# Altium footprint library micro-siemens.PCBLIB: 57 footprints (part 2 of 5)
Each footprint in its own frame and in the unit in brackets; x right, y up, seen from the top. Pads: shape width x height; smd on the part's side, far side on the other; paste and mask are expansions set on the pad; w line width, h text height; cw(c..) or ccw(c..) is an arc to the next point about the centre after c.
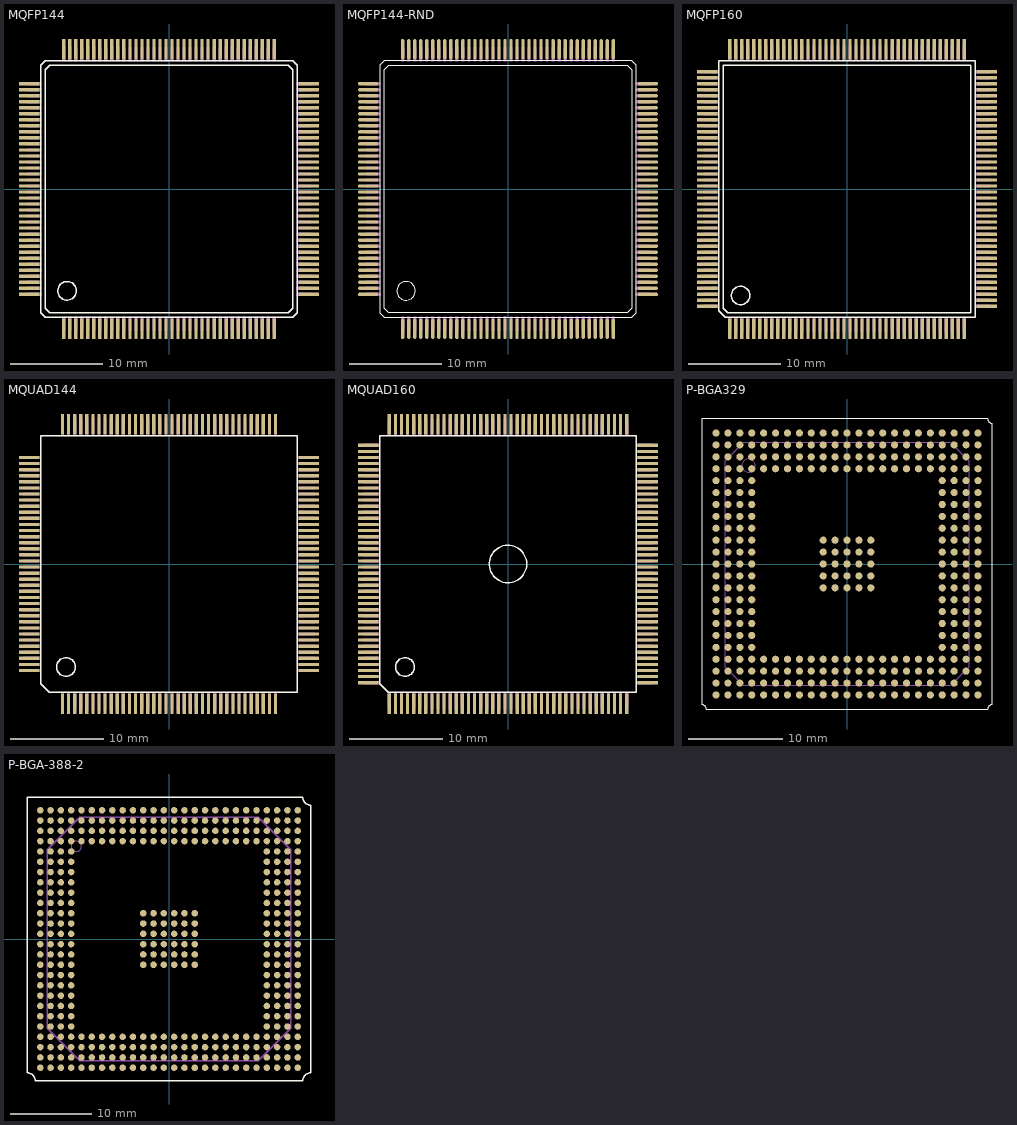
[diagram p1: the footprints below, top view; thin cyan lines are the x and y axes]

## MQFP144 [mm]
pads (144):
  rect 0.35x2.2 smd: 1(-11.375,-15.1) 2(-10.725,-15.1) 3(-10.075,-15.1) 4(-9.425,-15.1) 5(-8.775,-15.1) 6(-8.125,-15.1) 7(-7.475,-15.1) 8(-6.825,-15.1) 9(-6.175,-15.1) 10(-5.525,-15.1) 11(-4.875,-15.1) 12(-4.225,-15.1) 13(-3.575,-15.1) 14(-2.925,-15.1) 15(-2.275,-15.1) 16(-1.625,-15.1) 17(-0.975,-15.1) 18(-0.325,-15.1) 19(0.325,-15.1) 20(0.975,-15.1) 21(1.625,-15.1) 22(2.275,-15.1) 23(2.925,-15.1) 24(3.575,-15.1) 25(4.225,-15.1) 26(4.875,-15.1) 27(5.525,-15.1) 28(6.175,-15.1) 29(6.825,-15.1) 30(7.475,-15.1) 31(8.125,-15.1) 32(8.775,-15.1) 33(9.425,-15.1) 34(10.075,-15.1) 35(10.725,-15.1) 36(11.375,-15.1) 73(11.375,15.1) 74(10.725,15.1) 75(10.075,15.1) 76(9.425,15.1) 77(8.775,15.1) 78(8.125,15.1) 79(7.475,15.1) 80(6.825,15.1) 81(6.175,15.1) 82(5.525,15.1) 83(4.875,15.1) 84(4.225,15.1) 85(3.575,15.1) 86(2.925,15.1) 87(2.275,15.1) 88(1.625,15.1) 89(0.975,15.1) 90(0.325,15.1) 91(-0.325,15.1) 92(-0.975,15.1) 93(-1.625,15.1) 94(-2.275,15.1) 95(-2.925,15.1) 96(-3.575,15.1) 97(-4.225,15.1) 98(-4.875,15.1) 99(-5.525,15.1) 100(-6.175,15.1) 101(-6.825,15.1) 102(-7.475,15.1) 103(-8.125,15.1) 104(-8.775,15.1) 105(-9.425,15.1) 106(-10.075,15.1) 107(-10.725,15.1) 108(-11.375,15.1)
  rect 2.2x0.35 smd: 37(15.1,-11.375) 38(15.1,-10.725) 39(15.1,-10.075) 40(15.1,-9.425) 41(15.1,-8.775) 42(15.1,-8.125) 43(15.1,-7.475) 44(15.1,-6.825) 45(15.1,-6.175) 46(15.1,-5.525) 47(15.1,-4.875) 48(15.1,-4.225) 49(15.1,-3.575) 50(15.1,-2.925) 51(15.1,-2.275) 52(15.1,-1.625) 53(15.1,-0.975) 54(15.1,-0.325) 55(15.1,0.325) 56(15.1,0.975) 57(15.1,1.625) 58(15.1,2.275) 59(15.1,2.925) 60(15.1,3.575) 61(15.1,4.225) 62(15.1,4.875) 63(15.1,5.525) 64(15.1,6.175) 65(15.1,6.825) 66(15.1,7.475) 67(15.1,8.125) 68(15.1,8.775) 69(15.1,9.425) 70(15.1,10.075) 71(15.1,10.725) 72(15.1,11.375) 109(-15.1,11.375) 110(-15.1,10.725) 111(-15.1,10.075) 112(-15.1,9.425) 113(-15.1,8.775) 114(-15.1,8.125) 115(-15.1,7.475) 116(-15.1,6.825) 117(-15.1,6.175) 118(-15.1,5.525) 119(-15.1,4.875) 120(-15.1,4.225) 121(-15.1,3.575) 122(-15.1,2.925) 123(-15.1,2.275) 124(-15.1,1.625) 125(-15.1,0.975) 126(-15.1,0.325) 127(-15.1,-0.325) 128(-15.1,-0.975) 129(-15.1,-1.625) 130(-15.1,-2.275) 131(-15.1,-2.925) 132(-15.1,-3.575) 133(-15.1,-4.225) 134(-15.1,-4.875) 135(-15.1,-5.525) 136(-15.1,-6.175) 137(-15.1,-6.825) 138(-15.1,-7.475) 139(-15.1,-8.125) 140(-15.1,-8.775) 141(-15.1,-9.425) 142(-15.1,-10.075) 143(-15.1,-10.725) 144(-15.1,-11.375)
Top Overlay:
  circle w0.152: c-11,-11 r1
  lines w0.152: -13.873,-13.373 -13.373,-13.873 13.373,-13.873 13.873,-13.373 13.873,13.373 13.373,13.873 -13.373,13.873 -13.873,13.373 -13.873,-13.373 ; -13.373,-12.873 -12.873,-13.373 12.873,-13.373 13.373,-12.873 13.373,12.873 12.873,13.373 -12.873,13.373 -13.373,12.873 -13.373,-12.873
Mechanical 16:
  rectangle: -11.55,13.746 -11.2,15.346
  rectangle: -10.9,13.746 -10.55,15.346
  rectangle: -10.25,13.746 -9.9,15.346
  rectangle: -9.6,13.746 -9.25,15.346
  rectangle: -8.95,13.746 -8.6,15.346
  rectangle: -8.3,13.746 -7.95,15.346
  rectangle: -7.65,13.746 -7.3,15.346
  rectangle: -7,13.746 -6.65,15.346
  rectangle: -6.35,13.746 -6,15.346
  rectangle: -5.7,13.746 -5.35,15.346
  rectangle: -5.05,13.746 -4.7,15.346
  rectangle: -4.4,13.746 -4.05,15.346
  rectangle: -3.75,13.746 -3.4,15.346
  rectangle: -3.1,13.746 -2.75,15.346
  rectangle: -2.45,13.746 -2.1,15.346
  rectangle: -1.8,13.746 -1.45,15.346
  rectangle: -1.15,13.746 -0.8,15.346
  rectangle: -0.5,13.746 -0.15,15.346
  rectangle: 0.15,13.746 0.5,15.346
  rectangle: 0.8,13.746 1.15,15.346
  rectangle: 1.45,13.746 1.8,15.346
  rectangle: 2.1,13.746 2.45,15.346
  rectangle: 2.75,13.746 3.1,15.346
  rectangle: 3.4,13.746 3.75,15.346
  rectangle: 4.05,13.746 4.4,15.346
  rectangle: 4.7,13.746 5.05,15.346
  rectangle: 5.35,13.746 5.7,15.346
  rectangle: 6,13.746 6.35,15.346
  rectangle: 6.65,13.746 7,15.346
  rectangle: 7.3,13.746 7.65,15.346
  rectangle: 7.95,13.746 8.3,15.346
  rectangle: 8.6,13.746 8.95,15.346
  rectangle: 9.25,13.746 9.6,15.346
  rectangle: 9.9,13.746 10.25,15.346
  rectangle: 10.55,13.746 10.9,15.346
  rectangle: 11.2,13.746 11.55,15.346
  rectangle: 13.746,11.2 15.346,11.55
  rectangle: 13.746,10.55 15.346,10.9
  rectangle: 13.746,9.9 15.346,10.25
  rectangle: 13.746,9.25 15.346,9.6
  rectangle: 13.746,8.6 15.346,8.95
  rectangle: 13.746,7.95 15.346,8.3
  rectangle: 13.746,7.3 15.346,7.65
  rectangle: 13.721,6 15.346,6.35
  rectangle: 13.746,5.35 15.346,5.7
  rectangle: 13.746,4.7 15.346,5.05
  rectangle: 13.746,4.05 15.346,4.4
  rectangle: 13.746,6.65 15.346,7
  rectangle: 13.746,3.4 15.346,3.75
  rectangle: 13.746,2.75 15.346,3.1
  rectangle: 13.746,2.1 15.346,2.45
  rectangle: 13.746,1.45 15.346,1.8
  rectangle: 13.746,0.8 15.346,1.15
  rectangle: 13.746,0.15 15.346,0.5
  rectangle: 13.721,-0.5 15.346,-0.15
  rectangle: 13.746,-1.15 15.346,-0.8
  rectangle: 13.746,-1.8 15.346,-1.45
  rectangle: 13.771,-2.45 15.346,-2.1
  rectangle: 13.746,-3.1 15.346,-2.75
  rectangle: 13.746,-3.75 15.346,-3.4
  rectangle: 13.746,-4.4 15.346,-4.05
  rectangle: 13.746,-5.05 15.346,-4.7
  rectangle: 13.746,-5.7 15.346,-5.35
  rectangle: 13.746,-6.35 15.346,-6
  rectangle: 13.746,-7 15.346,-6.65
  rectangle: 13.746,-7.65 15.346,-7.3
  rectangle: 13.721,-7.95 13.746,-7.925
  rectangle: 13.746,-8.3 15.346,-7.95
  rectangle: 13.746,-8.95 15.346,-8.6
  rectangle: 13.746,-9.6 15.346,-9.25
  rectangle: 13.746,-10.25 15.346,-9.9
  rectangle: 13.721,-10.9 15.346,-10.55
  rectangle: 13.746,-11.55 15.346,-11.2
  rectangle: -15.346,11.2 -13.746,11.55
  rectangle: -15.346,10.55 -13.746,10.9
  rectangle: -15.346,9.9 -13.746,10.25
  rectangle: -15.346,9.25 -13.746,9.6
  rectangle: -15.346,8.6 -13.746,8.95
  rectangle: -15.346,7.95 -13.746,8.3
  rectangle: -15.346,7.3 -13.746,7.65
  rectangle: -15.346,6.65 -13.746,7
  rectangle: -15.346,6 -13.746,6.35
  rectangle: -15.346,5.35 -13.746,5.7
  rectangle: -15.346,4.7 -13.746,5.05
  rectangle: -15.346,4.05 -13.771,4.4
  rectangle: -15.346,3.4 -13.746,3.75
  rectangle: -15.346,2.75 -13.746,3.1
  rectangle: -15.346,2.1 -13.746,2.45
  rectangle: -15.346,1.45 -13.746,1.8
  rectangle: -15.346,0.8 -13.746,1.15
  rectangle: -15.346,0.15 -13.746,0.5
  rectangle: -15.346,-0.5 -13.746,-0.15
  rectangle: -15.346,-1.15 -13.746,-0.8
  rectangle: -15.346,-1.8 -13.746,-1.45
  rectangle: -15.346,-2.45 -13.746,-2.1
  rectangle: -15.346,-3.1 -13.721,-2.75
  rectangle: -15.346,-3.75 -13.746,-3.4
  rectangle: -15.346,-4.4 -13.746,-4.05
  rectangle: -15.346,-5.05 -13.746,-4.7
  rectangle: -15.346,-5.7 -13.746,-5.35
  rectangle: -15.346,-6.35 -13.746,-6
  rectangle: -15.346,-7 -13.746,-6.65
  rectangle: -15.346,-7.65 -13.746,-7.3
  rectangle: -15.346,-8.3 -13.746,-7.95
  rectangle: -15.346,-8.95 -13.721,-8.6
  rectangle: -15.346,-9.6 -13.746,-9.25
  rectangle: -15.346,-10.25 -13.746,-9.9
  rectangle: -15.346,-10.9 -13.746,-10.55
  rectangle: -15.346,-11.55 -13.721,-11.2
  rectangle: -11.55,-15.346 -11.2,-13.746
  rectangle: -10.9,-15.346 -10.55,-13.746
  rectangle: -10.25,-15.346 -9.9,-13.746
  rectangle: -9.6,-15.346 -9.25,-13.746
  rectangle: -8.95,-15.346 -8.6,-13.746
  rectangle: -8.3,-15.346 -7.95,-13.746
  rectangle: -7.65,-15.346 -7.3,-13.746
  rectangle: -7,-15.346 -6.65,-13.746
  rectangle: -6.35,-15.346 -6,-13.746
  rectangle: -5.7,-15.346 -5.35,-13.746
  rectangle: -5.05,-15.346 -4.7,-13.746
  rectangle: -4.4,-15.346 -4.05,-13.746
  rectangle: -3.75,-15.346 -3.4,-13.746
  rectangle: -3.1,-15.346 -2.75,-13.746
  rectangle: -2.45,-15.346 -2.1,-13.746
  rectangle: -1.8,-15.346 -1.45,-13.746
  rectangle: -1.15,-15.346 -0.8,-13.746
  rectangle: -0.5,-15.346 -0.15,-13.721
  rectangle: 0.15,-15.346 0.5,-13.746
  rectangle: 0.8,-13.796 0.825,-13.771
  rectangle: 0.8,-15.346 1.15,-13.746
  rectangle: 1.45,-15.346 1.8,-13.746
  rectangle: 2.1,-15.346 2.45,-13.746
  rectangle: 2.75,-15.346 3.1,-13.746
  rectangle: 3.4,-15.346 3.75,-13.746
  rectangle: 4.05,-15.346 4.4,-13.746
  rectangle: 4.7,-15.346 5.05,-13.746
  rectangle: 5.375,-15.346 5.7,-13.746
  rectangle: 6,-15.346 6.35,-13.746
  rectangle: 6.65,-15.346 7,-13.746
  rectangle: 7.3,-15.346 7.65,-13.746
  rectangle: 7.95,-15.346 8.3,-13.746
  rectangle: 8.6,-15.346 8.95,-13.746
  rectangle: 9.25,-15.346 9.6,-13.746
  rectangle: 9.9,-15.346 10.25,-13.746
  rectangle: 10.55,-15.346 10.9,-13.746
  rectangle: 11.2,-15.346 11.55,-13.746

## MQFP144-RND [mm]
pads (144):
  rrect100% 0.35x2.2 smd: 1(-11.375,-15.1) 2(-10.725,-15.1) 3(-10.075,-15.1) 4(-9.425,-15.1) 5(-8.775,-15.1) 6(-8.125,-15.1) 7(-7.475,-15.1) 8(-6.825,-15.1) 9(-6.175,-15.1) 10(-5.525,-15.1) 11(-4.875,-15.1) 12(-4.225,-15.1) 13(-3.575,-15.1) 14(-2.925,-15.1) 15(-2.275,-15.1) 16(-1.625,-15.1) 17(-0.975,-15.1) 18(-0.325,-15.1) 19(0.325,-15.1) 20(0.975,-15.1) 21(1.625,-15.1) 22(2.275,-15.1) 23(2.925,-15.1) 24(3.575,-15.1) 25(4.225,-15.1) 26(4.875,-15.1) 27(5.525,-15.1) 28(6.175,-15.1) 29(6.825,-15.1) 30(7.475,-15.1) 31(8.125,-15.1) 32(8.775,-15.1) 33(9.425,-15.1) 34(10.075,-15.1) 35(10.725,-15.1) 36(11.375,-15.1) 73(11.375,15.1) 74(10.725,15.1) 75(10.075,15.1) 76(9.425,15.1) 77(8.775,15.1) 78(8.125,15.1) 79(7.475,15.1) 80(6.825,15.1) 81(6.175,15.1) 82(5.525,15.1) 83(4.875,15.1) 84(4.225,15.1) 85(3.575,15.1) 86(2.925,15.1) 87(2.275,15.1) 88(1.625,15.1) 89(0.975,15.1) 90(0.325,15.1) 91(-0.325,15.1) 92(-0.975,15.1) 93(-1.625,15.1) 94(-2.275,15.1) 95(-2.925,15.1) 96(-3.575,15.1) 97(-4.225,15.1) 98(-4.875,15.1) 99(-5.525,15.1) 100(-6.175,15.1) 101(-6.825,15.1) 102(-7.475,15.1) 103(-8.125,15.1) 104(-8.775,15.1) 105(-9.425,15.1) 106(-10.075,15.1) 107(-10.725,15.1) 108(-11.375,15.1)
  rrect100% 2.2x0.35 smd: 37(15.1,-11.375) 38(15.1,-10.725) 39(15.1,-10.075) 40(15.1,-9.425) 41(15.1,-8.775) 42(15.1,-8.125) 43(15.1,-7.475) 44(15.1,-6.825) 45(15.1,-6.175) 46(15.1,-5.525) 47(15.1,-4.875) 48(15.1,-4.225) 49(15.1,-3.575) 50(15.1,-2.925) 51(15.1,-2.275) 52(15.1,-1.625) 53(15.1,-0.975) 54(15.1,-0.325) 55(15.1,0.325) 56(15.1,0.975) 57(15.1,1.625) 58(15.1,2.275) 59(15.1,2.925) 60(15.1,3.575) 61(15.1,4.225) 62(15.1,4.875) 63(15.1,5.525) 64(15.1,6.175) 65(15.1,6.825) 66(15.1,7.475) 67(15.1,8.125) 68(15.1,8.775) 69(15.1,9.425) 70(15.1,10.075) 71(15.1,10.725) 72(15.1,11.375) 109(-15.1,11.375) 110(-15.1,10.725) 111(-15.1,10.075) 112(-15.1,9.425) 113(-15.1,8.775) 114(-15.1,8.125) 115(-15.1,7.475) 116(-15.1,6.825) 117(-15.1,6.175) 118(-15.1,5.525) 119(-15.1,4.875) 120(-15.1,4.225) 121(-15.1,3.575) 122(-15.1,2.925) 123(-15.1,2.275) 124(-15.1,1.625) 125(-15.1,0.975) 126(-15.1,0.325) 127(-15.1,-0.325) 128(-15.1,-0.975) 129(-15.1,-1.625) 130(-15.1,-2.275) 131(-15.1,-2.925) 132(-15.1,-3.575) 133(-15.1,-4.225) 134(-15.1,-4.875) 135(-15.1,-5.525) 136(-15.1,-6.175) 137(-15.1,-6.825) 138(-15.1,-7.475) 139(-15.1,-8.125) 140(-15.1,-8.775) 141(-15.1,-9.425) 142(-15.1,-10.075) 143(-15.1,-10.725) 144(-15.1,-11.375)
Top Overlay:
  circle w0: c-11,-11 r1
  lines w0.127: -13.873,-13.373 -13.373,-13.873 13.373,-13.873 13.873,-13.373 13.873,13.373 13.373,13.873 -13.373,13.873 -13.873,13.373 -13.873,-13.373 ; -13.373,-12.873 -12.873,-13.373 12.873,-13.373 13.373,-12.873 13.373,12.873 12.873,13.373 -12.873,13.373 -13.373,12.873 -13.373,-12.873
Mechanical 16:
  rectangle: -11.55,13.746 -11.2,15.346
  rectangle: -10.9,13.746 -10.55,15.346
  rectangle: -10.25,13.746 -9.9,15.346
  rectangle: -9.6,13.746 -9.25,15.346
  rectangle: -8.95,13.746 -8.6,15.346
  rectangle: -8.3,13.746 -7.95,15.346
  rectangle: -7.65,13.746 -7.3,15.346
  rectangle: -7,13.746 -6.65,15.346
  rectangle: -6.35,13.746 -6,15.346
  rectangle: -5.7,13.746 -5.35,15.346
  rectangle: -5.05,13.746 -4.7,15.346
  rectangle: -4.4,13.746 -4.05,15.346
  rectangle: -3.75,13.746 -3.4,15.346
  rectangle: -3.1,13.746 -2.75,15.346
  rectangle: -2.45,13.746 -2.1,15.346
  rectangle: -1.8,13.746 -1.45,15.346
  rectangle: -1.15,13.746 -0.8,15.346
  rectangle: -0.5,13.746 -0.15,15.346
  rectangle: 0.15,13.746 0.5,15.346
  rectangle: 0.8,13.746 1.15,15.346
  rectangle: 1.45,13.746 1.8,15.346
  rectangle: 2.1,13.746 2.45,15.346
  rectangle: 2.75,13.746 3.1,15.346
  rectangle: 3.4,13.746 3.75,15.346
  rectangle: 4.05,13.746 4.4,15.346
  rectangle: 4.7,13.746 5.05,15.346
  rectangle: 5.35,13.746 5.7,15.346
  rectangle: 6,13.746 6.35,15.346
  rectangle: 6.65,13.746 7,15.346
  rectangle: 7.3,13.746 7.65,15.346
  rectangle: 7.95,13.746 8.3,15.346
  rectangle: 8.6,13.746 8.95,15.346
  rectangle: 9.25,13.746 9.6,15.346
  rectangle: 9.9,13.746 10.25,15.346
  rectangle: 10.55,13.746 10.9,15.346
  rectangle: 11.2,13.746 11.55,15.346
  rectangle: 13.746,11.2 15.346,11.55
  rectangle: 13.746,10.55 15.346,10.9
  rectangle: 13.746,9.9 15.346,10.25
  rectangle: 13.746,9.25 15.346,9.6
  rectangle: 13.746,8.6 15.346,8.95
  rectangle: 13.746,7.95 15.346,8.3
  rectangle: 13.746,7.3 15.346,7.65
  rectangle: 13.721,6 15.346,6.35
  rectangle: 13.746,5.35 15.346,5.7
  rectangle: 13.746,4.7 15.346,5.05
  rectangle: 13.746,4.05 15.346,4.4
  rectangle: 13.746,6.65 15.346,7
  rectangle: 13.746,3.4 15.346,3.75
  rectangle: 13.746,2.75 15.346,3.1
  rectangle: 13.746,2.1 15.346,2.45
  rectangle: 13.746,1.45 15.346,1.8
  rectangle: 13.746,0.8 15.346,1.15
  rectangle: 13.746,0.15 15.346,0.5
  rectangle: 13.721,-0.5 15.346,-0.15
  rectangle: 13.746,-1.15 15.346,-0.8
  rectangle: 13.746,-1.8 15.346,-1.45
  rectangle: 13.771,-2.45 15.346,-2.1
  rectangle: 13.746,-3.1 15.346,-2.75
  rectangle: 13.746,-3.75 15.346,-3.4
  rectangle: 13.746,-4.4 15.346,-4.05
  rectangle: 13.746,-5.05 15.346,-4.7
  rectangle: 13.746,-5.7 15.346,-5.35
  rectangle: 13.746,-6.35 15.346,-6
  rectangle: 13.746,-7 15.346,-6.65
  rectangle: 13.746,-7.65 15.346,-7.3
  rectangle: 13.721,-7.95 13.746,-7.925
  rectangle: 13.746,-8.3 15.346,-7.95
  rectangle: 13.746,-8.95 15.346,-8.6
  rectangle: 13.746,-9.6 15.346,-9.25
  rectangle: 13.746,-10.25 15.346,-9.9
  rectangle: 13.721,-10.9 15.346,-10.55
  rectangle: 13.746,-11.55 15.346,-11.2
  rectangle: -15.346,11.2 -13.746,11.55
  rectangle: -15.346,10.55 -13.746,10.9
  rectangle: -15.346,9.9 -13.746,10.25
  rectangle: -15.346,9.25 -13.746,9.6
  rectangle: -15.346,8.6 -13.746,8.95
  rectangle: -15.346,7.95 -13.746,8.3
  rectangle: -15.346,7.3 -13.746,7.65
  rectangle: -15.346,6.65 -13.746,7
  rectangle: -15.346,6 -13.746,6.35
  rectangle: -15.346,5.35 -13.746,5.7
  rectangle: -15.346,4.7 -13.746,5.05
  rectangle: -15.346,4.05 -13.771,4.4
  rectangle: -15.346,3.4 -13.746,3.75
  rectangle: -15.346,2.75 -13.746,3.1
  rectangle: -15.346,2.1 -13.746,2.45
  rectangle: -15.346,1.45 -13.746,1.8
  rectangle: -15.346,0.8 -13.746,1.15
  rectangle: -15.346,0.15 -13.746,0.5
  rectangle: -15.346,-0.5 -13.746,-0.15
  rectangle: -15.346,-1.15 -13.746,-0.8
  rectangle: -15.346,-1.8 -13.746,-1.45
  rectangle: -15.346,-2.45 -13.746,-2.1
  rectangle: -15.346,-3.1 -13.721,-2.75
  rectangle: -15.346,-3.75 -13.746,-3.4
  rectangle: -15.346,-4.4 -13.746,-4.05
  rectangle: -15.346,-5.05 -13.746,-4.7
  rectangle: -15.346,-5.7 -13.746,-5.35
  rectangle: -15.346,-6.35 -13.746,-6
  rectangle: -15.346,-7 -13.746,-6.65
  rectangle: -15.346,-7.65 -13.746,-7.3
  rectangle: -15.346,-8.3 -13.746,-7.95
  rectangle: -15.346,-8.95 -13.721,-8.6
  rectangle: -15.346,-9.6 -13.746,-9.25
  rectangle: -15.346,-10.25 -13.746,-9.9
  rectangle: -15.346,-10.9 -13.746,-10.55
  rectangle: -15.346,-11.55 -13.721,-11.2
  rectangle: -11.55,-15.346 -11.2,-13.746
  rectangle: -10.9,-15.346 -10.55,-13.746
  rectangle: -10.25,-15.346 -9.9,-13.746
  rectangle: -9.6,-15.346 -9.25,-13.746
  rectangle: -8.95,-15.346 -8.6,-13.746
  rectangle: -8.3,-15.346 -7.95,-13.746
  rectangle: -7.65,-15.346 -7.3,-13.746
  rectangle: -7,-15.346 -6.65,-13.746
  rectangle: -6.35,-15.346 -6,-13.746
  rectangle: -5.7,-15.346 -5.35,-13.746
  rectangle: -5.05,-15.346 -4.7,-13.746
  rectangle: -4.4,-15.346 -4.05,-13.746
  rectangle: -3.75,-15.346 -3.4,-13.746
  rectangle: -3.1,-15.346 -2.75,-13.746
  rectangle: -2.45,-15.346 -2.1,-13.746
  rectangle: -1.8,-15.346 -1.45,-13.746
  rectangle: -1.15,-15.346 -0.8,-13.746
  rectangle: -0.5,-15.346 -0.15,-13.721
  rectangle: 0.15,-15.346 0.5,-13.746
  rectangle: 0.8,-13.796 0.825,-13.771
  rectangle: 0.8,-15.346 1.15,-13.746
  rectangle: 1.45,-15.346 1.8,-13.746
  rectangle: 2.1,-15.346 2.45,-13.746
  rectangle: 2.75,-15.346 3.1,-13.746
  rectangle: 3.4,-15.346 3.75,-13.746
  rectangle: 4.05,-15.346 4.4,-13.746
  rectangle: 4.7,-15.346 5.05,-13.746
  rectangle: 5.375,-15.346 5.7,-13.746
  rectangle: 6,-15.346 6.35,-13.746
  rectangle: 6.65,-15.346 7,-13.746
  rectangle: 7.3,-15.346 7.65,-13.746
  rectangle: 7.95,-15.346 8.3,-13.746
  rectangle: 8.6,-15.346 8.95,-13.746
  rectangle: 9.25,-15.346 9.6,-13.746
  rectangle: 9.9,-15.346 10.25,-13.746
  rectangle: 10.55,-15.346 10.9,-13.746
  rectangle: 11.2,-15.346 11.55,-13.746

## MQFP160 [mm]
pads (160):
  rect 0.35x2.2 smd: 1(-12.675,-15.1) 2(-12.025,-15.1) 3(-11.375,-15.1) 4(-10.725,-15.1) 5(-10.075,-15.1) 6(-9.425,-15.1) 7(-8.775,-15.1) 8(-8.125,-15.1) 9(-7.475,-15.1) 10(-6.825,-15.1) 11(-6.175,-15.1) 12(-5.525,-15.1) 13(-4.875,-15.1) 14(-4.225,-15.1) 15(-3.575,-15.1) 16(-2.925,-15.1) 17(-2.275,-15.1) 18(-1.625,-15.1) 19(-0.975,-15.1) 20(-0.325,-15.1) 21(0.325,-15.1) 22(0.975,-15.1) 23(1.625,-15.1) 24(2.275,-15.1) 25(2.925,-15.1) 26(3.575,-15.1) 27(4.225,-15.1) 28(4.875,-15.1) 29(5.525,-15.1) 30(6.175,-15.1) 31(6.825,-15.1) 32(7.475,-15.1) 33(8.125,-15.1) 34(8.775,-15.1) 35(9.425,-15.1) 36(10.075,-15.1) 37(10.725,-15.1) 38(11.375,-15.1) 39(12.025,-15.1) 40(12.675,-15.1) 81(12.675,15.1) 82(12.025,15.1) 83(11.375,15.1) 84(10.725,15.1) 85(10.075,15.1) 86(9.425,15.1) 87(8.775,15.1) 88(8.125,15.1) 89(7.475,15.1) 90(6.825,15.1) 91(6.175,15.1) 92(5.525,15.1) 93(4.875,15.1) 94(4.225,15.1) 95(3.575,15.1) 96(2.925,15.1) 97(2.275,15.1) 98(1.625,15.1) 99(0.975,15.1) 100(0.325,15.1) 101(-0.325,15.1) 102(-0.975,15.1) 103(-1.625,15.1) 104(-2.275,15.1) 105(-2.925,15.1) 106(-3.575,15.1) 107(-4.225,15.1) 108(-4.875,15.1) 109(-5.525,15.1) 110(-6.175,15.1) 111(-6.825,15.1) 112(-7.475,15.1) 113(-8.125,15.1) 114(-8.775,15.1) 115(-9.425,15.1) 116(-10.075,15.1) 117(-10.725,15.1) 118(-11.375,15.1) 119(-12.025,15.1) 120(-12.675,15.1)
  rect 2.2x0.35 smd: 41(15.1,-12.675) 42(15.1,-12.025) 43(15.1,-11.375) 44(15.1,-10.725) 45(15.1,-10.075) 46(15.1,-9.425) 47(15.1,-8.775) 48(15.1,-8.125) 49(15.1,-7.475) 50(15.1,-6.825) 51(15.1,-6.175) 52(15.1,-5.525) 53(15.1,-4.875) 54(15.1,-4.225) 55(15.1,-3.575) 56(15.1,-2.925) 57(15.1,-2.275) 58(15.1,-1.625) 59(15.1,-0.975) 60(15.1,-0.325) 61(15.1,0.325) 62(15.1,0.975) 63(15.1,1.625) 64(15.1,2.275) 65(15.1,2.925) 66(15.1,3.575) 67(15.1,4.225) 68(15.1,4.875) 69(15.1,5.525) 70(15.1,6.175) 71(15.1,6.825) 72(15.1,7.475) 73(15.1,8.125) 74(15.1,8.775) 75(15.1,9.425) 76(15.1,10.075) 77(15.1,10.725) 78(15.1,11.375) 79(15.1,12.025) 80(15.1,12.675) 121(-15.1,12.675) 122(-15.1,12.025) 123(-15.1,11.375) 124(-15.1,10.725) 125(-15.1,10.075) 126(-15.1,9.425) 127(-15.1,8.775) 128(-15.1,8.125) 129(-15.1,7.475) 130(-15.1,6.825) 131(-15.1,6.175) 132(-15.1,5.525) 133(-15.1,4.875) 134(-15.1,4.225) 135(-15.1,3.575) 136(-15.1,2.925) 137(-15.1,2.275) 138(-15.1,1.625) 139(-15.1,0.975) 140(-15.1,0.325) 141(-15.1,-0.325) 142(-15.1,-0.975) 143(-15.1,-1.625) 144(-15.1,-2.275) 145(-15.1,-2.925) 146(-15.1,-3.575) 147(-15.1,-4.225) 148(-15.1,-4.875) 149(-15.1,-5.525) 150(-15.1,-6.175) 151(-15.1,-6.825) 152(-15.1,-7.475) 153(-15.1,-8.125) 154(-15.1,-8.775) 155(-15.1,-9.425) 156(-15.1,-10.075) 157(-15.1,-10.725) 158(-15.1,-11.375) 159(-15.1,-12.025) 160(-15.1,-12.675)
Top Overlay:
  circle w0.152: c-11.5,-11.5 r1
  lines w0.152: -13.873,-13.123 -13.873,13.873 13.873,13.873 13.873,-13.873 -13.123,-13.873 -13.873,-13.123 ; -13.373,-12.873 -12.873,-13.373 13.373,-13.373 13.373,13.373 -13.373,13.373 -13.373,-12.873
Mechanical 16:
  drawing of 162 lines, arcs and shapes, not listed

## MQUAD144 [mm]
pads (144):
  rect 0.35x2.2 smd: 1(-11.375,-14.92) 2(-10.725,-14.92) 3(-10.075,-14.92) 4(-9.425,-14.92) 5(-8.775,-14.92) 6(-8.125,-14.92) 7(-7.475,-14.92) 8(-6.825,-14.92) 9(-6.175,-14.92) 10(-5.525,-14.92) 11(-4.875,-14.92) 12(-4.225,-14.92) 13(-3.575,-14.92) 14(-2.925,-14.92) 15(-2.275,-14.92) 16(-1.625,-14.92) 17(-0.975,-14.92) 18(-0.325,-14.92) 19(0.325,-14.92) 20(0.975,-14.92) 21(1.625,-14.92) 22(2.275,-14.92) 23(2.925,-14.92) 24(3.575,-14.92) 25(4.225,-14.92) 26(4.875,-14.92) 27(5.525,-14.92) 28(6.175,-14.92) 29(6.825,-14.92) 30(7.475,-14.92) 31(8.125,-14.92) 32(8.775,-14.92) 33(9.425,-14.92) 34(10.075,-14.92) 35(10.725,-14.92) 36(11.375,-14.92) 73(11.375,14.92) 74(10.725,14.92) 75(10.075,14.92) 76(9.425,14.92) 77(8.775,14.92) 78(8.125,14.92) 79(7.475,14.92) 80(6.825,14.92) 81(6.175,14.92) 82(5.525,14.92) 83(4.875,14.92) 84(4.225,14.92) 85(3.575,14.92) 86(2.925,14.92) 87(2.275,14.92) 88(1.625,14.92) 89(0.975,14.92) 90(0.325,14.92) 91(-0.325,14.92) 92(-0.975,14.92) 93(-1.625,14.92) 94(-2.275,14.92) 95(-2.925,14.92) 96(-3.575,14.92) 97(-4.225,14.92) 98(-4.875,14.92) 99(-5.525,14.92) 100(-6.175,14.92) 101(-6.825,14.92) 102(-7.475,14.92) 103(-8.125,14.92) 104(-8.775,14.92) 105(-9.425,14.92) 106(-10.075,14.92) 107(-10.725,14.92) 108(-11.375,14.92)
  rect 2.2x0.35 smd: 37(14.92,-11.375) 38(14.92,-10.725) 39(14.92,-10.075) 40(14.92,-9.425) 41(14.92,-8.775) 42(14.92,-8.125) 43(14.92,-7.475) 44(14.92,-6.825) 45(14.92,-6.175) 46(14.92,-5.525) 47(14.92,-4.875) 48(14.92,-4.225) 49(14.92,-3.575) 50(14.92,-2.925) 51(14.92,-2.275) 52(14.92,-1.625) 53(14.92,-0.975) 54(14.92,-0.325) 55(14.92,0.325) 56(14.92,0.975) 57(14.92,1.625) 58(14.92,2.275) 59(14.92,2.925) 60(14.92,3.575) 61(14.92,4.225) 62(14.92,4.875) 63(14.92,5.525) 64(14.92,6.175) 65(14.92,6.825) 66(14.92,7.475) 67(14.92,8.125) 68(14.92,8.775) 69(14.92,9.425) 70(14.92,10.075) 71(14.92,10.725) 72(14.92,11.375) 109(-14.92,11.375) 110(-14.92,10.725) 111(-14.92,10.075) 112(-14.92,9.425) 113(-14.92,8.775) 114(-14.92,8.125) 115(-14.92,7.475) 116(-14.92,6.825) 117(-14.92,6.175) 118(-14.92,5.525) 119(-14.92,4.875) 120(-14.92,4.225) 121(-14.92,3.575) 122(-14.92,2.925) 123(-14.92,2.275) 124(-14.92,1.625) 125(-14.92,0.975) 126(-14.92,0.325) 127(-14.92,-0.325) 128(-14.92,-0.975) 129(-14.92,-1.625) 130(-14.92,-2.275) 131(-14.92,-2.925) 132(-14.92,-3.575) 133(-14.92,-4.225) 134(-14.92,-4.875) 135(-14.92,-5.525) 136(-14.92,-6.175) 137(-14.92,-6.825) 138(-14.92,-7.475) 139(-14.92,-8.125) 140(-14.92,-8.775) 141(-14.92,-9.425) 142(-14.92,-10.075) 143(-14.92,-10.725) 144(-14.92,-11.375)
Top Overlay:
  circle w0.152: c-11,-11 r1
  lines w0.152: -13.693,-12.793 -12.793,-13.693 13.693,-13.693 13.693,13.693 -13.693,13.693 -13.693,-12.793
Mechanical 16:
  rectangle: -11.55,-15.6 -11.2,-13.82
  rectangle: -10.9,-15.6 -10.55,-13.82
  rectangle: -10.25,-15.6 -9.9,-13.82
  rectangle: -9.6,-15.6 -9.25,-13.82
  rectangle: -8.95,-15.6 -8.6,-13.82
  rectangle: -8.3,-15.6 -7.95,-13.82
  rectangle: -7.65,-15.6 -7.3,-13.82
  rectangle: -7,-15.6 -6.65,-13.82
  rectangle: -6.35,-15.6 -6,-13.82
  rectangle: -5.7,-15.6 -5.35,-13.82
  rectangle: -5.05,-15.6 -4.7,-13.82
  rectangle: -4.4,-15.6 -4.05,-13.82
  rectangle: -3.75,-15.6 -3.4,-13.82
  rectangle: -2.45,-15.6 -2.1,-13.82
  rectangle: -3.1,-15.6 -2.75,-13.82
  rectangle: -1.8,-15.6 -1.45,-13.82
  rectangle: -1.15,-15.6 -0.8,-13.82
  rectangle: -0.5,-15.6 -0.15,-13.82
  rectangle: 0.15,-15.6 0.5,-13.82
  rectangle: 0.8,-15.6 1.15,-13.82
  rectangle: 1.45,-15.6 1.8,-13.82
  rectangle: 2.1,-15.6 2.45,-13.82
  rectangle: 2.75,-15.6 3.1,-13.82
  rectangle: 3.4,-15.6 3.75,-13.82
  rectangle: 4.05,-15.6 4.4,-13.82
  rectangle: 4.7,-15.6 5.05,-13.82
  rectangle: 6,-15.6 6.35,-13.82
  rectangle: 5.35,-15.6 5.7,-13.82
  rectangle: 6.65,-15.6 7,-13.82
  rectangle: 7.3,-15.6 7.65,-13.82
  rectangle: 7.95,-15.6 8.3,-13.82
  rectangle: 8.6,-15.6 8.95,-13.82
  rectangle: 9.25,-15.6 9.6,-13.82
  rectangle: 9.9,-15.6 10.25,-13.82
  rectangle: 10.55,-15.6 10.9,-13.82
  rectangle: 11.2,-15.6 11.55,-13.82
  rectangle: 13.82,-11.55 15.6,-11.2
  rectangle: 13.82,-10.9 15.6,-10.55
  rectangle: 13.82,-10.25 15.6,-9.9
  rectangle: 13.82,-9.6 15.6,-9.25
  rectangle: 13.82,-8.95 15.6,-8.6
  rectangle: 13.82,-8.3 15.6,-7.95
  rectangle: 13.82,-7.65 15.6,-7.3
  rectangle: 13.82,-7 15.6,-6.65
  rectangle: 13.82,-6.35 15.6,-6
  rectangle: 13.82,-5.7 15.6,-5.35
  rectangle: 13.82,-5.05 15.6,-4.7
  rectangle: 13.82,-4.4 15.6,-4.05
  rectangle: 13.82,-3.75 15.6,-3.4
  rectangle: 13.82,-3.1 15.6,-2.75
  rectangle: 13.82,-2.45 15.6,-2.1
  rectangle: 13.82,-1.8 15.6,-1.45
  rectangle: 13.82,-1.15 15.6,-0.8
  rectangle: 13.82,-0.5 15.6,-0.15
  rectangle: 13.82,0.15 15.6,0.5
  rectangle: 13.82,0.8 15.6,1.15
  rectangle: 13.82,1.45 15.6,1.8
  rectangle: 13.82,2.1 15.6,2.45
  rectangle: 13.82,2.75 15.6,3.1
  rectangle: 13.82,3.4 15.6,3.75
  rectangle: 13.82,4.05 15.6,4.4
  rectangle: 13.82,4.7 15.6,5.05
  rectangle: 13.82,5.35 15.6,5.7
  rectangle: 13.82,6 15.6,6.35
  rectangle: 13.82,6.65 15.6,7
  rectangle: 13.82,7.3 15.6,7.65
  rectangle: 13.82,7.95 15.6,8.3
  rectangle: 13.82,8.6 15.6,8.95
  rectangle: 13.82,9.25 15.6,9.6
  rectangle: 13.82,9.9 15.6,10.25
  rectangle: 13.82,10.55 15.6,10.9
  rectangle: 13.82,11.2 15.6,11.55
  rectangle: 11.2,13.82 11.55,15.6
  rectangle: 10.55,13.82 10.9,15.6
  rectangle: 9.9,13.82 10.25,15.6
  rectangle: 9.25,13.82 9.6,15.6
  rectangle: 8.6,13.82 8.95,15.6
  rectangle: 7.95,13.82 8.3,15.6
  rectangle: 7.3,13.82 7.65,15.6
  rectangle: 6.65,13.82 7,15.6
  rectangle: 6,13.82 6.35,15.6
  rectangle: 5.35,13.82 5.7,15.6
  rectangle: 4.7,13.82 5.05,15.6
  rectangle: 4.05,13.82 4.4,15.6
  rectangle: 3.4,13.82 3.75,15.6
  rectangle: 2.75,13.82 3.1,15.6
  rectangle: 2.1,13.82 2.45,15.6
  rectangle: 1.45,13.82 1.8,15.6
  rectangle: 0.8,13.82 1.15,15.6
  rectangle: 0.15,13.82 0.5,15.6
  rectangle: -0.5,13.82 -0.15,15.6
  rectangle: -1.15,13.82 -0.8,15.6
  rectangle: -1.8,13.82 -1.45,15.6
  rectangle: -2.45,13.82 -2.1,15.6
  rectangle: -3.1,13.82 -2.75,15.6
  rectangle: -3.75,13.82 -3.4,15.6
  rectangle: -4.4,13.82 -4.05,15.6
  rectangle: -5.05,13.82 -4.7,15.6
  rectangle: -6.35,13.82 -6,15.6
  rectangle: -5.7,13.82 -5.35,15.6
  rectangle: -7,13.82 -6.65,15.6
  rectangle: -7.65,13.82 -7.3,15.6
  rectangle: -8.3,13.82 -7.95,15.6
  rectangle: -8.95,13.82 -8.6,15.6
  rectangle: -9.6,13.82 -9.25,15.6
  rectangle: -10.25,13.82 -9.9,15.6
  rectangle: -10.9,13.82 -10.55,15.6
  rectangle: -11.55,13.82 -11.2,15.6
  rectangle: -15.6,11.2 -13.82,11.55
  rectangle: -15.6,10.55 -13.82,10.9
  rectangle: -15.6,9.9 -13.82,10.25
  rectangle: -15.6,9.25 -13.82,9.6
  rectangle: -15.6,8.6 -13.82,8.95
  rectangle: -15.6,7.95 -13.82,8.3
  rectangle: -15.6,7.3 -13.82,7.65
  rectangle: -15.6,6.65 -13.82,7
  rectangle: -15.6,6 -13.82,6.35
  rectangle: -15.6,5.35 -13.82,5.7
  rectangle: -15.6,4.7 -13.82,5.05
  rectangle: -15.6,4.05 -13.82,4.4
  rectangle: -15.6,3.4 -13.82,3.75
  rectangle: -15.6,2.75 -13.82,3.1
  rectangle: -15.6,2.1 -13.82,2.45
  rectangle: -15.6,1.45 -13.82,1.8
  rectangle: -15.6,0.8 -13.82,1.15
  rectangle: -15.6,0.15 -13.82,0.5
  rectangle: -15.6,-0.5 -13.82,-0.15
  rectangle: -15.6,-1.15 -13.82,-0.8
  rectangle: -15.6,-1.8 -13.82,-1.45
  rectangle: -15.6,-2.45 -13.82,-2.1
  rectangle: -15.6,-3.1 -13.82,-2.75
  rectangle: -15.6,-3.75 -13.82,-3.4
  rectangle: -15.6,-4.4 -13.82,-4.05
  rectangle: -15.6,-5.05 -13.82,-4.7
  rectangle: -15.6,-5.7 -13.82,-5.35
  rectangle: -15.6,-6.35 -13.82,-6
  rectangle: -15.6,-7 -13.82,-6.65
  rectangle: -15.6,-7.65 -13.82,-7.3
  rectangle: -15.6,-8.3 -13.82,-7.95
  rectangle: -15.6,-8.95 -13.82,-8.6
  rectangle: -15.6,-9.6 -13.82,-9.25
  rectangle: -15.6,-10.25 -13.82,-9.9
  rectangle: -15.6,-10.9 -13.82,-10.55
  rectangle: -15.6,-11.55 -13.82,-11.2

## MQUAD160 [mm]
pads (160):
  rect 0.35x2.2 smd: 1(-12.675,-14.92) 2(-12.025,-14.92) 3(-11.375,-14.92) 4(-10.725,-14.92) 5(-10.075,-14.92) 6(-9.425,-14.92) 7(-8.775,-14.92) 8(-8.125,-14.92) 9(-7.475,-14.92) 10(-6.825,-14.92) 11(-6.175,-14.92) 12(-5.525,-14.92) 13(-4.875,-14.92) 14(-4.225,-14.92) 15(-3.575,-14.92) 16(-2.925,-14.92) 17(-2.275,-14.92) 18(-1.625,-14.92) 19(-0.975,-14.92) 20(-0.325,-14.92) 21(0.325,-14.92) 22(0.975,-14.92) 23(1.625,-14.92) 24(2.275,-14.92) 25(2.925,-14.92) 26(3.575,-14.92) 27(4.225,-14.92) 28(4.875,-14.92) 29(5.525,-14.92) 30(6.175,-14.92) 31(6.825,-14.92) 32(7.475,-14.92) 33(8.125,-14.92) 34(8.775,-14.92) 35(9.425,-14.92) 36(10.075,-14.92) 37(10.725,-14.92) 38(11.375,-14.92) 39(12.025,-14.92) 40(12.675,-14.92) 81(12.675,14.92) 82(12.025,14.92) 83(11.375,14.92) 84(10.725,14.92) 85(10.075,14.92) 86(9.425,14.92) 87(8.775,14.92) 88(8.125,14.92) 89(7.475,14.92) 90(6.825,14.92) 91(6.175,14.92) 92(5.525,14.92) 93(4.875,14.92) 94(4.225,14.92) 95(3.575,14.92) 96(2.925,14.92) 97(2.275,14.92) 98(1.625,14.92) 99(0.975,14.92) 100(0.325,14.92) 101(-0.325,14.92) 102(-0.975,14.92) 103(-1.625,14.92) 104(-2.275,14.92) 105(-2.925,14.92) 106(-3.575,14.92) 107(-4.225,14.92) 108(-4.875,14.92) 109(-5.525,14.92) 110(-6.175,14.92) 111(-6.825,14.92) 112(-7.475,14.92) 113(-8.125,14.92) 114(-8.775,14.92) 115(-9.425,14.92) 116(-10.075,14.92) 117(-10.725,14.92) 118(-11.375,14.92) 119(-12.025,14.92) 120(-12.675,14.92)
  rect 2.2x0.35 smd: 41(14.92,-12.675) 42(14.92,-12.025) 43(14.92,-11.375) 44(14.92,-10.725) 45(14.92,-10.075) 46(14.92,-9.425) 47(14.92,-8.775) 48(14.92,-8.125) 49(14.92,-7.475) 50(14.92,-6.825) 51(14.92,-6.175) 52(14.92,-5.525) 53(14.92,-4.875) 54(14.92,-4.225) 55(14.92,-3.575) 56(14.92,-2.925) 57(14.92,-2.275) 58(14.92,-1.625) 59(14.92,-0.975) 60(14.92,-0.325) 61(14.92,0.325) 62(14.92,0.975) 63(14.92,1.625) 64(14.92,2.275) 65(14.92,2.925) 66(14.92,3.575) 67(14.92,4.225) 68(14.92,4.875) 69(14.92,5.525) 70(14.92,6.175) 71(14.92,6.825) 72(14.92,7.475) 73(14.92,8.125) 74(14.92,8.775) 75(14.92,9.425) 76(14.92,10.075) 77(14.92,10.725) 78(14.92,11.375) 79(14.92,12.025) 80(14.92,12.675) 121(-14.92,12.675) 122(-14.92,12.025) 123(-14.92,11.375) 124(-14.92,10.725) 125(-14.92,10.075) 126(-14.92,9.425) 127(-14.92,8.775) 128(-14.92,8.125) 129(-14.92,7.475) 130(-14.92,6.825) 131(-14.92,6.175) 132(-14.92,5.525) 133(-14.92,4.875) 134(-14.92,4.225) 135(-14.92,3.575) 136(-14.92,2.925) 137(-14.92,2.275) 138(-14.92,1.625) 139(-14.92,0.975) 140(-14.92,0.325) 141(-14.92,-0.325) 142(-14.92,-0.975) 143(-14.92,-1.625) 144(-14.92,-2.275) 145(-14.92,-2.925) 146(-14.92,-3.575) 147(-14.92,-4.225) 148(-14.92,-4.875) 149(-14.92,-5.525) 150(-14.92,-6.175) 151(-14.92,-6.825) 152(-14.92,-7.475) 153(-14.92,-8.125) 154(-14.92,-8.775) 155(-14.92,-9.425) 156(-14.92,-10.075) 157(-14.92,-10.725) 158(-14.92,-11.375) 159(-14.92,-12.025) 160(-14.92,-12.675)
Top Overlay:
  circle w0.152: c-11,-11 r1
  circle w0.152: c0,0 r2
  lines w0.152: -13.693,-12.793 -12.793,-13.693 13.693,-13.693 13.693,13.693 -13.693,13.693 -13.693,-12.793
Mechanical 16:
  drawing of 160 lines, arcs and shapes, not listed

## P-BGA329 [mm]
pads (329):
  rrect100% 0.76x0.76 smd: A1(-13.97,13.97) A2(-12.7,13.97) A3(-11.43,13.97) A4(-10.16,13.97) A5(-8.89,13.97) A6(-7.62,13.97) A7(-6.35,13.97) A8(-5.08,13.97) A9(-3.81,13.97) A10(-2.54,13.97) A11(-1.27,13.97) A12(0,13.97) A13(1.27,13.97) A14(2.54,13.97) A15(3.81,13.97) A16(5.08,13.97) A17(6.35,13.97) A18(7.62,13.97) A19(8.89,13.97) A20(10.16,13.97) A21(11.43,13.97) A22(12.7,13.97) A23(13.97,13.97) AA1(-13.97,-11.43) AA2(-12.7,-11.43) AA3(-11.43,-11.43) AA4(-10.16,-11.43) AA5(-8.89,-11.43) AA6(-7.62,-11.43) AA7(-6.35,-11.43) AA8(-5.08,-11.43) AA9(-3.81,-11.43) AA10(-2.54,-11.43) AA11(-1.27,-11.43) AA12(0,-11.43) AA13(1.27,-11.43) AA14(2.54,-11.43) AA15(3.81,-11.43) AA16(5.08,-11.43) AA17(6.35,-11.43) AA18(7.62,-11.43) AA19(8.89,-11.43) AA20(10.16,-11.43) AA21(11.43,-11.43) AA22(12.7,-11.43) AA23(13.97,-11.43) AB1(-13.97,-12.7) AB2(-12.7,-12.7) AB3(-11.43,-12.7) AB4(-10.16,-12.7) AB5(-8.89,-12.7) AB6(-7.62,-12.7) AB7(-6.35,-12.7) AB8(-5.08,-12.7) AB9(-3.81,-12.7) AB10(-2.54,-12.7) AB11(-1.27,-12.7) AB12(0,-12.7) AB13(1.27,-12.7) AB14(2.54,-12.7) AB15(3.81,-12.7) AB16(5.08,-12.7) AB17(6.35,-12.7) AB18(7.62,-12.7) AB19(8.89,-12.7) AB20(10.16,-12.7) AB21(11.43,-12.7) AB22(12.7,-12.7) AB23(13.97,-12.7) AC1(-13.97,-13.97) AC2(-12.7,-13.97) AC3(-11.43,-13.97) AC4(-10.16,-13.97) AC5(-8.89,-13.97) AC6(-7.62,-13.97) AC7(-6.35,-13.97) AC8(-5.08,-13.97) AC9(-3.81,-13.97) AC10(-2.54,-13.97) AC11(-1.27,-13.97) AC12(0,-13.97) AC13(1.27,-13.97) AC14(2.54,-13.97) AC15(3.81,-13.97) AC16(5.08,-13.97) AC17(6.35,-13.97) AC18(7.62,-13.97) AC19(8.89,-13.97) AC20(10.16,-13.97) AC21(11.43,-13.97) AC22(12.7,-13.97) AC23(13.97,-13.97) B1(-13.97,12.7) B2(-12.7,12.7) B3(-11.43,12.7) B4(-10.16,12.7) B5(-8.89,12.7) B6(-7.62,12.7) B7(-6.35,12.7) B8(-5.08,12.7) B9(-3.81,12.7) B10(-2.54,12.7) B11(-1.27,12.7) B12(0,12.7) B13(1.27,12.7) B14(2.54,12.7) B15(3.81,12.7) B16(5.08,12.7) B17(6.35,12.7) B18(7.62,12.7) B19(8.89,12.7) B20(10.16,12.7) B21(11.43,12.7) B22(12.7,12.7) B23(13.97,12.7) C1(-13.97,11.43) C2(-12.7,11.43) C3(-11.43,11.43) C4(-10.16,11.43) C5(-8.89,11.43) C6(-7.62,11.43) C7(-6.35,11.43) C8(-5.08,11.43) C9(-3.81,11.43) C10(-2.54,11.43) C11(-1.27,11.43) C12(0,11.43) C13(1.27,11.43) C14(2.54,11.43) C15(3.81,11.43) C16(5.08,11.43) C17(6.35,11.43) C18(7.62,11.43) C19(8.89,11.43) C20(10.16,11.43) C21(11.43,11.43) C22(12.7,11.43) C23(13.97,11.43) D1(-13.97,10.16) D2(-12.7,10.16) D3(-11.43,10.16) D4(-10.16,10.16) D5(-8.89,10.16) D6(-7.62,10.16) D7(-6.35,10.16) D8(-5.08,10.16) D9(-3.81,10.16) D10(-2.54,10.16) D11(-1.27,10.16) D12(0,10.16) D13(1.27,10.16) D14(2.54,10.16) D15(3.81,10.16) D16(5.08,10.16) D17(6.35,10.16) D18(7.62,10.16) D19(8.89,10.16) D20(10.16,10.16) D21(11.43,10.16) D22(12.7,10.16) D23(13.97,10.16) E1(-13.97,8.89) E2(-12.7,8.89) E3(-11.43,8.89) E4(-10.16,8.89) E20(10.16,8.89) E21(11.43,8.89) E22(12.7,8.89) E23(13.97,8.89) F1(-13.97,7.62) F2(-12.7,7.62) F3(-11.43,7.62) F4(-10.16,7.62) F20(10.16,7.62) F21(11.43,7.62) F22(12.7,7.62) F23(13.97,7.62) G1(-13.97,6.35) G2(-12.7,6.35) G3(-11.43,6.35) G4(-10.16,6.35) G20(10.16,6.35) G21(11.43,6.35) G22(12.7,6.35) G23(13.97,6.35) H1(-13.97,5.08) H2(-12.7,5.08) H3(-11.43,5.08) H4(-10.16,5.08) H20(10.16,5.08) H21(11.43,5.08) H22(12.7,5.08) H23(13.97,5.08) J1(-13.97,3.81) J2(-12.7,3.81) J3(-11.43,3.81) J4(-10.16,3.81) J20(10.16,3.81) J21(11.43,3.81) J22(12.7,3.81) J23(13.97,3.81) K1(-13.97,2.54) K2(-12.7,2.54) K3(-11.43,2.54) K4(-10.16,2.54) K10(-2.54,2.54) K11(-1.27,2.54) K12(0,2.54) K13(1.27,2.54) K14(2.54,2.54) K20(10.16,2.54) K21(11.43,2.54) K22(12.7,2.54) K23(13.97,2.54) L1(-13.97,1.27) L2(-12.7,1.27) L3(-11.43,1.27) L4(-10.16,1.27) L10(-2.54,1.27) L11(-1.27,1.27) L12(0,1.27) L13(1.27,1.27) L14(2.54,1.27) L20(10.16,1.27) L21(11.43,1.27) L22(12.7,1.27) L23(13.97,1.27) M1(-13.97,0) M2(-12.7,0) M3(-11.43,0) M4(-10.16,0) M10(-2.54,0) M11(-1.27,0) M12(0,0) M13(1.27,0) M14(2.54,0) M20(10.16,0) M21(11.43,0) M22(12.7,0) M23(13.97,0) N1(-13.97,-1.27) N2(-12.7,-1.27) N3(-11.43,-1.27) N4(-10.16,-1.27) N10(-2.54,-1.27) N11(-1.27,-1.27) N12(0,-1.27) N13(1.27,-1.27) N14(2.54,-1.27) N20(10.16,-1.27) N21(11.43,-1.27) N22(12.7,-1.27) N23(13.97,-1.27) P1(-13.97,-2.54) P2(-12.7,-2.54) P3(-11.43,-2.54) P4(-10.16,-2.54) P10(-2.54,-2.54) P11(-1.27,-2.54) P12(0,-2.54) P13(1.27,-2.54) P14(2.54,-2.54) P20(10.16,-2.54) P21(11.43,-2.54) P22(12.7,-2.54) P23(13.97,-2.54) R1(-13.97,-3.81) R2(-12.7,-3.81) R3(-11.43,-3.81) R4(-10.16,-3.81) R20(10.16,-3.81) R21(11.43,-3.81) R22(12.7,-3.81) R23(13.97,-3.81) T1(-13.97,-5.08) T2(-12.7,-5.08) T3(-11.43,-5.08) T4(-10.16,-5.08) T20(10.16,-5.08) T21(11.43,-5.08) T22(12.7,-5.08) T23(13.97,-5.08) U1(-13.97,-6.35) U2(-12.7,-6.35) U3(-11.43,-6.35) U4(-10.16,-6.35) U20(10.16,-6.35) U21(11.43,-6.35) U22(12.7,-6.35) U23(13.97,-6.35) V1(-13.97,-7.62) V2(-12.7,-7.62) V3(-11.43,-7.62) V4(-10.16,-7.62) V20(10.16,-7.62) V21(11.43,-7.62) V22(12.7,-7.62) V23(13.97,-7.62) W1(-13.97,-8.89) W2(-12.7,-8.89) W3(-11.43,-8.89) W4(-10.16,-8.89) W20(10.16,-8.89) W21(11.43,-8.89) W22(12.7,-8.89) W23(13.97,-8.89) Y1(-13.97,-10.16) Y2(-12.7,-10.16) Y3(-11.43,-10.16) Y4(-10.16,-10.16) Y5(-8.89,-10.16) Y6(-7.62,-10.16) Y7(-6.35,-10.16) Y8(-5.08,-10.16) Y9(-3.81,-10.16) Y10(-2.54,-10.16) Y11(-1.27,-10.16) Y12(0,-10.16) Y13(1.27,-10.16) Y14(2.54,-10.16) Y15(3.81,-10.16) Y16(5.08,-10.16) Y17(6.35,-10.16) Y18(7.62,-10.16) Y19(8.89,-10.16) Y20(10.16,-10.16) Y21(11.43,-10.16) Y22(12.7,-10.16) Y23(13.97,-10.16)
Top Overlay:
  lines w0.127: -15.5,-15 -15.5,15.5 15,15.5 ccw(c15.5,15.5) 15.5,15 15.5,-15 ccw(c15.5,-15.5) 15,-15.5 -15,-15.5 ccw(c-15.5,-15.5) -15.5,-15
Mechanical 16:
  circle w0.127: c-10.5,10.5 r0.707
  lines w0.127: -13,-11 -11,-13 11,-13 13,-11 13,11 11,13 -11,13 -13,11 -13,-11

## P-BGA-388-2 [mil]
pads (388):
  rrect100% 31.5x31.5 smd: A1(-625,625) A2(-575,625) A3(-525,625) A4(-475,625) A5(-425,625) A6(-375,625) A7(-325,625) A8(-275,625) A9(-225,625) A10(-175,625) A11(-125,625) A12(-75,625) A13(-25,625) A14(25,625) A15(75,625) A16(125,625) A17(175,625) A18(225,625) A19(275,625) A20(325,625) A21(375,625) A22(425,625) A23(475,625) A24(525,625) A25(575,625) A26(625,625) AA1(-625,-375) AA2(-575,-375) AA3(-525,-375) AA4(-475,-375) AA23(475,-375) AA24(525,-375) AA25(575,-375) AA26(625,-375) AB1(-625,-425) AB2(-575,-425) AB3(-525,-425) AB4(-475,-425) AB23(475,-425) AB24(525,-425) AB25(575,-425) AB26(625,-425) AC1(-625,-475) AC2(-575,-475) AC3(-525,-475) AC4(-475,-475) AC5(-425,-475) AC6(-375,-475) AC7(-325,-475) AC8(-275,-475) AC9(-225,-475) AC10(-175,-475) AC11(-125,-475) AC12(-75,-475) AC13(-25,-475) AC14(25,-475) AC15(75,-475) AC16(125,-475) AC17(175,-475) AC18(225,-475) AC19(275,-475) AC20(325,-475) AC21(375,-475) AC22(425,-475) AC23(475,-475) AC24(525,-475) AC25(575,-475) AC26(625,-475) AD1(-625,-525) AD2(-575,-525) AD3(-525,-525) AD4(-475,-525) AD5(-425,-525) AD6(-375,-525) AD7(-325,-525) AD8(-275,-525) AD9(-225,-525) AD10(-175,-525) AD11(-125,-525) AD12(-75,-525) AD13(-25,-525) AD14(25,-525) AD15(75,-525) AD16(125,-525) AD17(175,-525) AD18(225,-525) AD19(275,-525) AD20(325,-525) AD21(375,-525) AD22(425,-525) AD23(475,-525) AD24(525,-525) AD25(575,-525) AD26(625,-525) AE1(-625,-575) AE2(-575,-575) AE3(-525,-575) AE4(-475,-575) AE5(-425,-575) AE6(-375,-575) AE7(-325,-575) AE8(-275,-575) AE9(-225,-575) AE10(-175,-575) AE11(-125,-575) AE12(-75,-575) AE13(-25,-575) AE14(25,-575) AE15(75,-575) AE16(125,-575) AE17(175,-575) AE18(225,-575) AE19(275,-575) AE20(325,-575) AE21(375,-575) AE22(425,-575) AE23(475,-575) AE24(525,-575) AE25(575,-575) AE26(625,-575) AF1(-625,-625) AF2(-575,-625) AF3(-525,-625) AF4(-475,-625) AF5(-425,-625) AF6(-375,-625) AF7(-325,-625) AF8(-275,-625) AF9(-225,-625) AF10(-175,-625) AF11(-125,-625) AF12(-75,-625) AF13(-25,-625) AF14(25,-625) AF15(75,-625) AF16(125,-625) AF17(175,-625) AF18(225,-625) AF19(275,-625) AF20(325,-625) AF21(375,-625) AF22(425,-625) AF23(475,-625) AF24(525,-625) AF25(575,-625) AF26(625,-625) B1(-625,575) B2(-575,575) B3(-525,575) B4(-475,575) B5(-425,575) B6(-375,575) B7(-325,575) B8(-275,575) B9(-225,575) B10(-175,575) B11(-125,575) B12(-75,575) B13(-25,575) B14(25,575) B15(75,575) B16(125,575) B17(175,575) B18(225,575) B19(275,575) B20(325,575) B21(375,575) B22(425,575) B23(475,575) B24(525,575) B25(575,575) B26(625,575) C1(-625,525) C2(-575,525) C3(-525,525) C4(-475,525) C5(-425,525) C6(-375,525) C7(-325,525) C8(-275,525) C9(-225,525) C10(-175,525) C11(-125,525) C12(-75,525) C13(-25,525) C14(25,525) C15(75,525) C16(125,525) C17(175,525) C18(225,525) C19(275,525) C20(325,525) C21(375,525) C22(425,525) C23(475,525) C24(525,525) C25(575,525) C26(625,525) D1(-625,475) D2(-575,475) D3(-525,475) D4(-475,475) D5(-425,475) D6(-375,475) D7(-325,475) D8(-275,475) D9(-225,475) D10(-175,475) D11(-125,475) D12(-75,475) D13(-25,475) D14(25,475) D15(75,475) D16(125,475) D17(175,475) D18(225,475) D19(275,475) D20(325,475) D21(375,475) D22(425,475) D23(475,475) D24(525,475) D25(575,475) D26(625,475) E1(-625,425) E2(-575,425) E3(-525,425) E4(-475,425) E23(475,425) E24(525,425) E25(575,425) E26(625,425) F1(-625,375) F2(-575,375) F3(-525,375) F4(-475,375) F23(475,375) F24(525,375) F25(575,375) F26(625,375) G1(-625,325) G2(-575,325) G3(-525,325) G4(-475,325) G23(475,325) G24(525,325) G25(575,325) G26(625,325) H1(-625,275) H2(-575,275) H3(-525,275) H4(-475,275) H23(475,275) H24(525,275) H25(575,275) H26(625,275) J1(-625,225) J2(-575,225) J3(-525,225) J4(-475,225) J23(475,225) J24(525,225) J25(575,225) J26(625,225) K1(-625,175) K2(-575,175) K3(-525,175) K4(-475,175) K23(475,175) K24(525,175) K25(575,175) K26(625,175) L1(-625,125) L2(-575,125) L3(-525,125) L4(-475,125) L11(-125,125) L12(-75,125) L13(-25,125) L14(25,125) L15(75,125) L16(125,125) L23(475,125) L24(525,125) L25(575,125) L26(625,125) M1(-625,75) M2(-575,75) M3(-525,75) M4(-475,75) M11(-125,75) M12(-75,75) M13(-25,75) M14(25,75) M15(75,75) M16(125,75) M23(475,75) M24(525,75) M25(575,75) M26(625,75) N1(-625,25) N2(-575,25) N3(-525,25) N4(-475,25) N11(-125,25) N12(-75,25) N13(-25,25) N14(25,25) N15(75,25) N16(125,25) N23(475,25) N24(525,25) N25(575,25) N26(625,25) P1(-625,-25) P2(-575,-25) P3(-525,-25) P4(-475,-25) P11(-125,-25) P12(-75,-25) P13(-25,-25) P14(25,-25) P15(75,-25) P16(125,-25) P23(475,-25) P24(525,-25) P25(575,-25) P26(625,-25) R1(-625,-75) R2(-575,-75) R3(-525,-75) R4(-475,-75) R11(-125,-75) R12(-75,-75) R13(-25,-75) R14(25,-75) R15(75,-75) R16(125,-75) R23(475,-75) R24(525,-75) R25(575,-75) R26(625,-75) T1(-625,-125) T2(-575,-125) T3(-525,-125) T4(-475,-125) T11(-125,-125) T12(-75,-125) T13(-25,-125) T14(25,-125) T15(75,-125) T16(125,-125) T23(475,-125) T24(525,-125) T25(575,-125) T26(625,-125) U1(-625,-175) U2(-575,-175) U3(-525,-175) U4(-475,-175) U23(475,-175) U24(525,-175) U25(575,-175) U26(625,-175) V1(-625,-225) V2(-575,-225) V3(-525,-225) V4(-475,-225) V23(475,-225) V24(525,-225) V25(575,-225) V26(625,-225) W1(-625,-275) W2(-575,-275) W3(-525,-275) W4(-475,-275) W23(475,-275) W24(525,-275) W25(575,-275) W26(625,-275) X4(-475,-325) Y1(-625,-325) Y2(-575,-325) Y3(-525,-325) Y23(475,-325) Y24(525,-325) Y25(575,-325) Y26(625,-325)
Top Overlay:
  lines w8: -688.98,-649.61 -688.98,688.98 649.61,688.98 ccw(c688.98,688.98) 688.98,649.61 688.98,-649.61 ccw(c688.98,-688.98) 649.61,-688.98 -649.61,-688.98 ccw(c-688.98,-688.98) -688.98,-649.61
Mechanical 16:
  circle w0: c-450,450 r25
  lines w8: -590.55,-433.07 -433.07,-590.55 433.07,-590.55 590.55,-433.07 590.55,433.07 433.07,590.55 -433.07,590.55 -590.55,433.07 -590.55,-433.07